# EAGLE library part LMD128D818 (library ADS128D818)
ADC 12-Bit, 8-Channel, ADC System Monitor with Temperature Sensor, Internal/External Reference, and I2C Interface http://www.ti.com/product/adc128d818 http://fr.farnell.com/texas-instruments/adc128d818cimt-nopb/adc-12-bits-10sps-i2c-tssop-16/dp/2395888
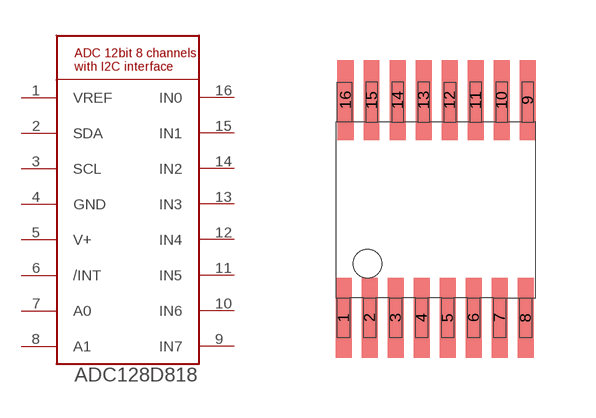
[diagram p0: symbol with the pads of ADC128D818; footprint ADC128D818]

Designator prefix -

## LMD128D818  [ADC128D818]
1  VREF
2  SDA
3  SCL
4  GND
5  V+
6  /INT
7  A0
8  A1
9  IN7
10  IN6
11  IN5
12  IN4
13  IN3
14  IN2
15  IN1
16  IN0

## Footprint ADC128D818 (pad centres in mm)
smd 0.4 x 2: 1 -2.3,-2.7; 2 -1.65,-2.7; 3 -1,-2.7; 4 -0.35,-2.7; 5 0.3,-2.7; 6 0.95,-2.7; 7 1.6,-2.7; 8 2.25,-2.7; 9 2.3,2.75; 10 1.65,2.75; 11 1,2.75; 12 0.35,2.75; 13 -0.3,2.75; 14 -0.95,2.75; 15 -1.6,2.75; 16 -2.25,2.75